# Altium footprint library FMA_Sensor.PcbLib: 5 footprints
Each footprint in its own frame and in the unit in brackets; x right, y up, seen from the top. Pads: shape width x height; smd on the part's side, far side on the other; paste and mask are expansions set on the pad; w line width, h text height; cw(c..) or ccw(c..) is an arc to the next point about the centre after c.
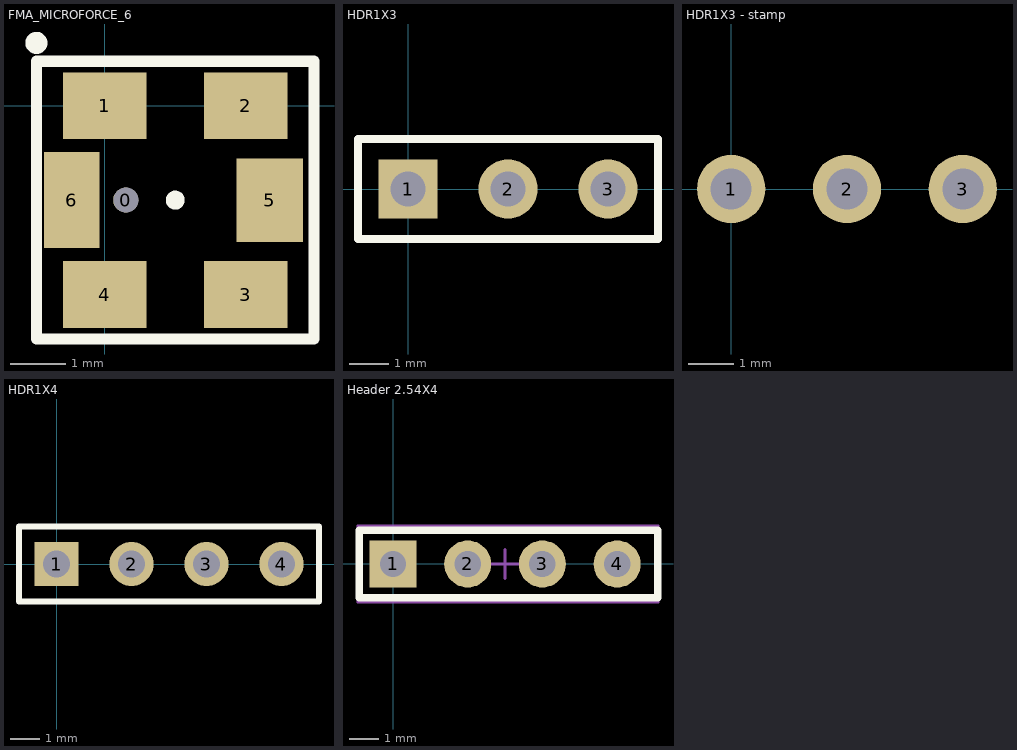
[diagram p0: the footprints below, top view; thin cyan lines are the x and y axes]

## FMA_MICROFORCE_6 [mm]
pads (7):
  round 0.45 hole 0.45 unplated: 0(0.38,-1.7)
  rect 1.5x1.2 smd: 1(0,0) 2(2.54,0) 3(2.54,-3.4) 4(0,-3.4)
  rect 1.2x1.5 smd: 5(2.97,-1.7)
  rect 1x1.73 smd: 6(-0.59,-1.7)
Top Overlay:
  circle w0.2: c1.27,-1.7 r0.07
  circle w0.254: c-1.23,1.13 r0.071
  lines w0.2: -1.23,-4.2 3.77,-4.2 3.77,0.8 -1.23,0.8 -1.23,-4.2
3D body "FMA-Sensor-Body.stp": height 2.55, standoff 0, extent -1.23,-4.2 3.77,0.8

## HDR1X3 [mm] "Connector; Header; 3 Position"
pads (3):
  rect 1.5x1.5 hole 0.9: 1(0,0)
  round 1.5 hole 0.9: 2(2.54,0) 3(5.08,0)
Top Overlay:
  lines w0.2: -1.27,-1.27 -1.27,1.27 6.35,1.27 6.35,-1.27 -1.27,-1.27

## HDR1X3 - stamp [mm] "Connector; Header; 3 Position"
pads (3):
  round 1.5 / inner round 1.5 / far side rect 1.5x1.5 hole 0.9: 1(0,0) 2(2.54,0) 3(5.08,0)

## HDR1X4 [mm] "Connector; Header; 4 Position"
pads (4):
  rect 1.5x1.5 hole 0.9: 1(0,0)
  round 1.5 hole 0.9: 2(2.54,0) 3(5.08,0) 4(7.62,0)
Top Overlay:
  lines w0.2: -1.27,-1.27 -1.27,1.27 8.89,1.27 8.89,-1.27 -1.27,-1.27

## Header 2.54X4 [mm]
pads (4):
  rect 1.6x1.6 hole 0.9: 1(0,0)
  round 1.6 hole 0.9: 2(2.54,0) 3(5.08,0) 4(7.62,0)
Top Overlay:
  lines w0.254: -1.143,-1.143 9,-1.143 9,1.143 -1.143,1.143 -1.143,-1.143
Mechanical 15:
  lines w0.1: 3.31,0 4.31,0 ; 3.81,-0.5 3.81,0.5 ; -1.19,-1.3 9.01,-1.3 9.01,1.3 -1.19,1.3 -1.19,-1.3
3D body "HEADER 2.54X4.stp": height 8.3, standoff -2.9, extent -1.143,-1.228 9.017,1.27